# EAGLE library part AD5254BRUZ100 (library digital pot)
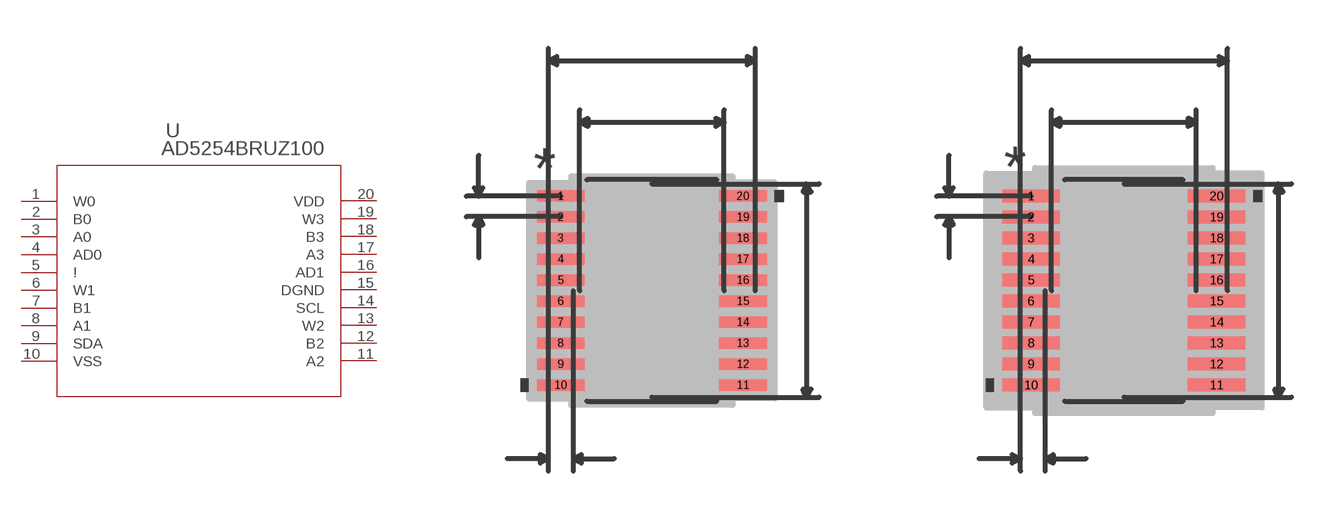
[diagram p0: symbol with the pads of RU_20; footprints RU_20, RU_20-M]

Designator prefix U

## AD5254BRUZ100 (MANUFACTURER_PART_NUMBER: AD5254BRUZ100; VENDOR: Analog Devices Inc)  [RU_20]
1  W0  pas
2  B0  pas
3  A0  pas
4  AD0  pas
5  !  pas
6  W1  pas
7  B1  pas
8  A1  pas
9  SDA  pas
10  VSS  pwr
11  A2  pas
12  B2  pas
13  W2  pas
14  SCL  pas
15  DGND  pas
16  AD1  pas
17  A3  pas
18  B3  pas
19  W3  pas
20  VDD  pwr

## AD5254BRUZ100RU_20-M (MANUFACTURER_PART_NUMBER: AD5254BRUZ100; VENDOR: Analog Devices Inc)  [RU_20-M]
Pads as for RU_20

## AD5254BRUZ100RU_20-L (MANUFACTURER_PART_NUMBER: AD5254BRUZ100; VENDOR: Analog Devices Inc)  [RU_20-L]
Pads as for RU_20

## Footprint RU_20 (pad centres in mm)
smd 1.473 x 0.356: 1 -2.819,2.925; 2 -2.819,2.275; 3 -2.819,1.625; 4 -2.819,0.975; 5 -2.819,0.325; 6 -2.819,-0.325; 7 -2.819,-0.975; 8 -2.819,-1.625; 9 -2.819,-2.275; 10 -2.819,-2.925; 11 2.819,-2.925; 12 2.819,-2.275; 13 2.819,-1.625; 14 2.819,-0.975; 15 2.819,-0.325; 16 2.819,0.325; 17 2.819,0.975; 18 2.819,1.625; 19 2.819,2.275; 20 2.819,2.925

## Footprint RU_20-M (pad centres in mm)
smd 1.778 x 0.406: 1 -2.87,2.925; 2 -2.87,2.275; 3 -2.87,1.625; 4 -2.87,0.975; 5 -2.87,0.325; 6 -2.87,-0.325; 7 -2.87,-0.975; 8 -2.87,-1.625; 9 -2.87,-2.275; 10 -2.87,-2.925; 11 2.87,-2.925; 12 2.87,-2.275; 13 2.87,-1.625; 14 2.87,-0.975; 15 2.87,-0.325; 16 2.87,0.325; 17 2.87,0.975; 18 2.87,1.625; 19 2.87,2.275; 20 2.87,2.925

## Footprint RU_20-L (pad centres in mm)
smd 1.168 x 0.305: 1 -2.769,2.925; 2 -2.769,2.275; 3 -2.769,1.625; 4 -2.769,0.975; 5 -2.769,0.325; 6 -2.769,-0.325; 7 -2.769,-0.975; 8 -2.769,-1.625; 9 -2.769,-2.275; 10 -2.769,-2.925; 11 2.769,-2.925; 12 2.769,-2.275; 13 2.769,-1.625; 14 2.769,-0.975; 15 2.769,-0.325; 16 2.769,0.325; 17 2.769,0.975; 18 2.769,1.625; 19 2.769,2.275; 20 2.769,2.925